# Altium schematic symbol library CYPD3175-24LQXQ.SchLib: 1 symbol
Pins are listed as number, name and electrical type; pins without a type are passive.

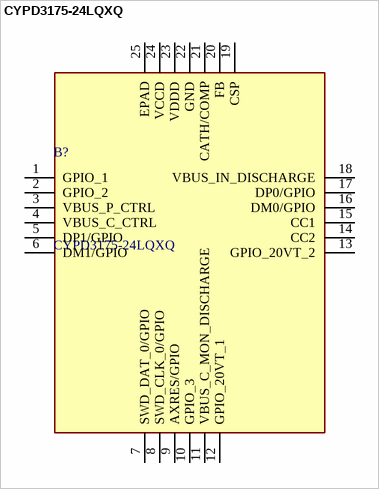
[diagram p0: symbol CYPD3175-24LQXQ]

## CYPD3175-24LQXQ
designator B?
CYPRESS SEMICONDUCTOR - CYPD3175-24LQXQ - USB TYPE-C PD CONTROLLER, QFN-24; Manufacturer_Name: Infineon; Geometry.Height: 0.6mm; Mouser Part Number: 727-CYPD3175-24LQXQ; Mouser Price/Stock: https://www.mouser.co.uk/ProductDetail/Infineon-Technologies/CYPD3175-24LQXQ?qs=1mbolxNpo8fiO8YziS703A%3D%3D; Manufacturer_Part_Number: CYPD3175-24LQXQ; Datasheet Link: https://www.cypress.com/file/363381/download
footprint QFN50P400X400X60-25N-D
pins: 1 GPIO_1, 2 GPIO_2, 3 VBUS_P_CTRL, 4 VBUS_C_CTRL, 5 DP1/GPIO, 6 DM1/GPIO, 7 SWD_DAT_0/GPIO, 8 SWD_CLK_0/GPIO, 9 AXRES/GPIO, 10 GPIO_3, 11 VBUS_C_MON_DISCHARGE, 12 GPIO_20VT_1, 13 GPIO_20VT_2, 14 CC2, 15 CC1, 16 DM0/GPIO, 17 DP0/GPIO, 18 VBUS_IN_DISCHARGE, 19 CSP, 20 FB, 21 CATH/COMP, 22 GND, 23 VDDD, 24 VCCD, 25 EPAD